# EAGLE library part TE4/6 (library busbar)
BUS BAR 6 connections, grid 4 TE
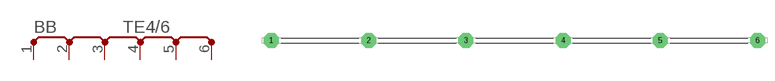
[diagram p3: symbol with the pads of TE4/6; footprint TE4/6]

Designator prefix BB

## TE4/6  [TE4/6]
1  P  pas
2  P  pas
3  P  pas
4  P  pas
5  P  pas
6  P  pas

## Footprint TE4/6 (pad centres in mm)
BUS BAR 6 connections, grid 4 TE
drill 1.6 pad 3.15 octagon: 1 -50.8,0; 2 -30.48,0; 3 -10.16,0; 4 10.16,0; 5 30.48,0; 6 50.8,0